# Altium footprint library IMR_LIB_PCB.PcbLib: 119 footprints (part 4 of 8)
Each footprint in its own frame and in the unit in brackets; x right, y up, seen from the top. Pads: shape width x height; smd on the part's side, far side on the other; paste and mask are expansions set on the pad; w line width, h text height; cw(c..) or ccw(c..) is an arc to the next point about the centre after c.
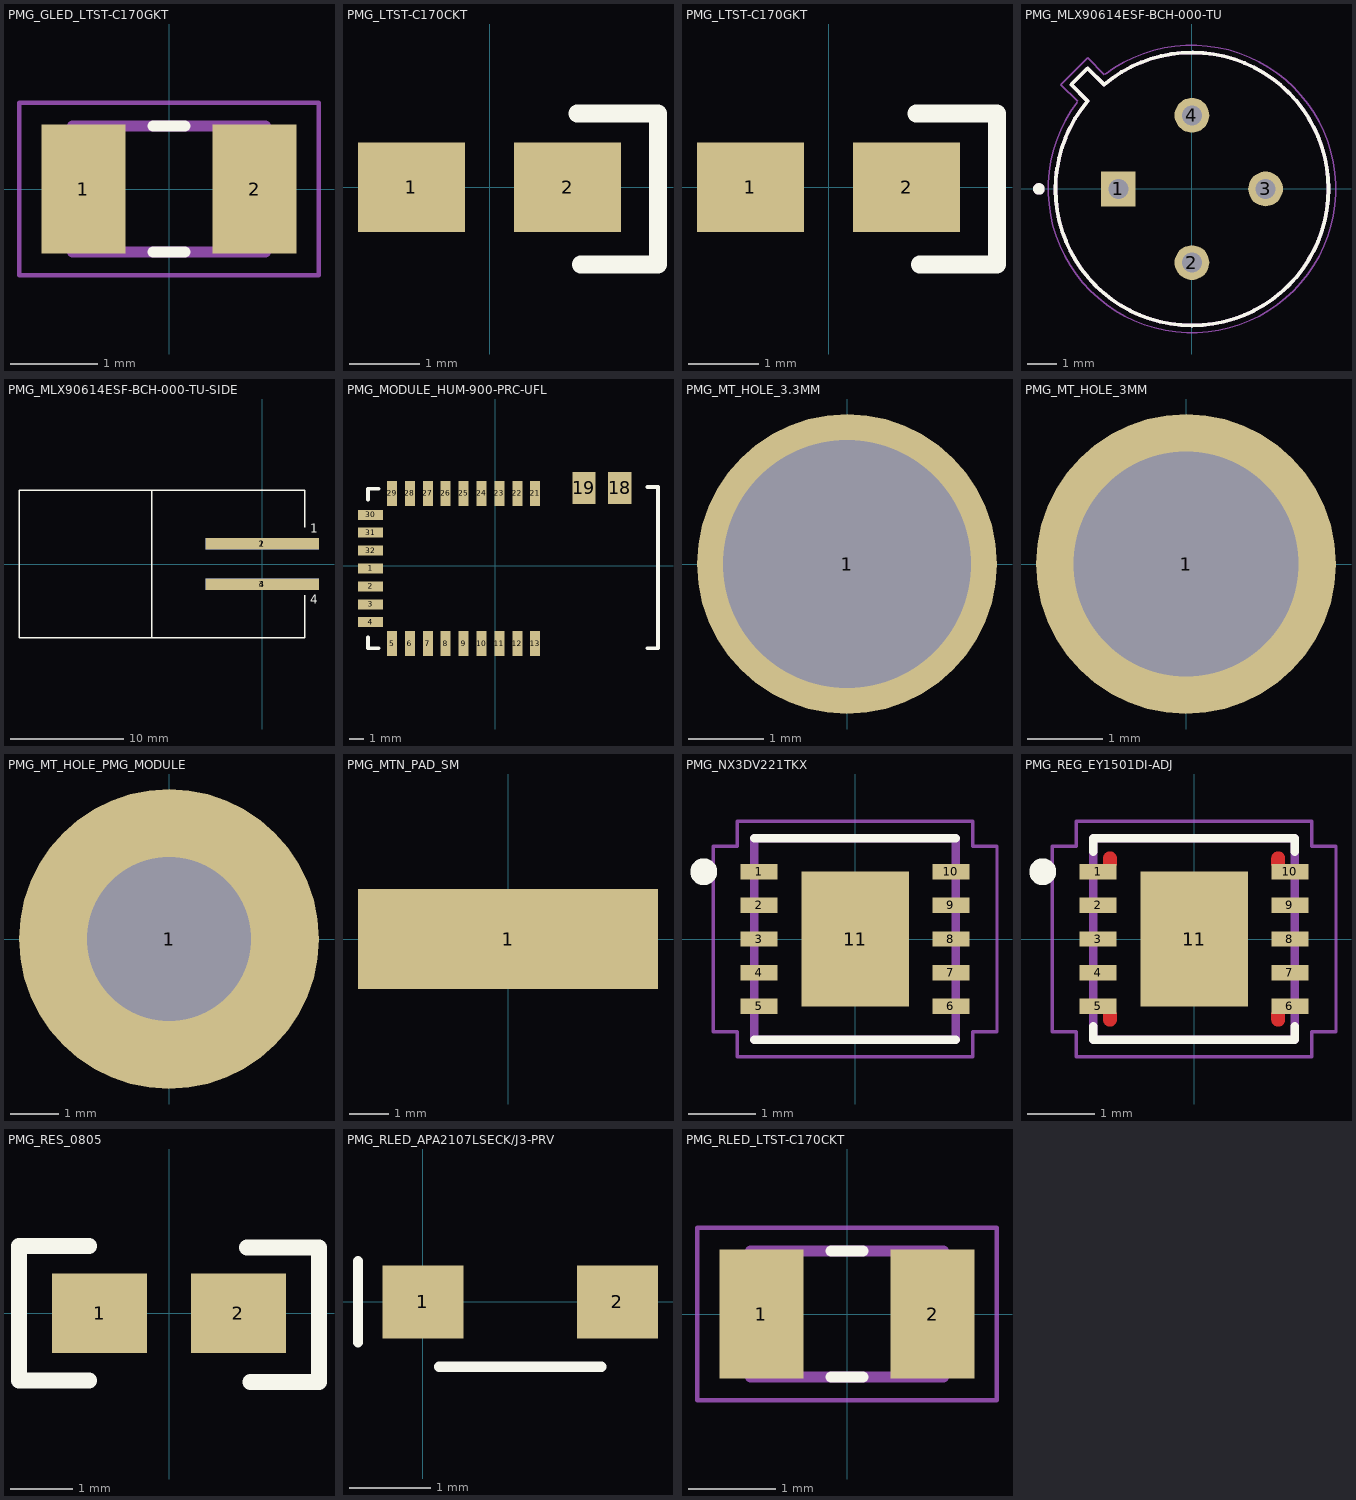
[diagram p3: the footprints below, top view; thin cyan lines are the x and y axes]

## PMG_GLED_LTST-C170GKT [mm] "DIODE LED GREEN 0805"
pads (2):
  rect 0.96x1.47 smd: 1(-0.978,0) 2(0.978,0)
Top Overlay:
  lines w0.127: -0.18,-0.72 0.18,-0.72 ; -0.18,0.72 0.18,0.72
3D Top:
  lines w0.127: -1.1,-0.72 -1.1,0.72 1.1,0.72 1.1,-0.72 -1.1,-0.72
Courtyard Top:
  lines w0.05: -1.708,-0.983 -1.708,0.983 1.708,0.983 1.708,-0.983 -1.708,-0.983

## PMG_LTST-C170CKT [mil] "LTST-C170CKT"
height 43.31
pads (2):
  rect 60x50 smd: 1(-43.78,0) 2(43.78,0)
Top Overlay:
  lines w10: 49.21,41.34 94.49,41.34 94.49,-43.31 51.18,-43.31
3D body: height 43.31, standoff 0, extent -60,-30 65,30

## PMG_LTST-C170GKT [mil] "LTST-C170GKT"
height 43.31
pads (2):
  rect 60x50 smd: 1(-43.78,0) 2(43.78,0)
Top Overlay:
  lines w10: 49.21,41.34 94.49,41.34 94.49,-43.31 51.18,-43.31
3D body: height 43.31, standoff 0, extent -60,-30 65,30

## PMG_MLX90614ESF-BCH-000-TU [mm] "TO-39 4 PIN"
height 8.3
pads (4):
  rect 1.198x1.198 hole 0.69: 1(-2.54,0)
  round 1.198 hole 0.69: 2(0,-2.54) 3(2.54,0) 4(0,2.54)
Top Overlay:
  circle w0.2: c-5.28,0 r0.1
  lines w0.127: -3.605,3.027 ccw(c0.005,-0.002) -3.327,-3.334 ; -3.599,3.033 -4.165,3.599 -3.599,4.165 -3.033,3.599 ; -3.33,-3.33 ccw(c0,0) 3.33,-3.33 ccw(c0,0) 3.33,3.33 ; -3.026,3.605 cw(c0.002,-0.004) 3.334,3.327
3D Top:
  circle w0.2: c-5.28,0 r0.1
  lines w0.127: -3.605,3.027 ccw(c0.005,-0.002) -3.327,-3.334 ; -3.599,3.033 -4.165,3.599 -3.599,4.165 -3.033,3.599 ; -3.33,-3.33 ccw(c0,0) 3.33,-3.33 ccw(c0,0) 3.33,3.33 ; -3.026,3.605 cw(c0.002,-0.004) 3.334,3.327
Courtyard Top:
  lines w0.05: -3.959,2.989 ccw(c0.005,0.001) -3.505,-3.509 ; -3.937,3.018 -4.518,3.599 -3.599,4.518 -3.018,3.937 ; -3.507,-3.507 ccw(c0,0) 3.507,-3.507 ccw(c0,0) 3.507,3.507 ; -2.989,3.959 cw(c-0.001,-0.005) 3.509,3.505
3D body: height 4.25, standoff -13, extent -4.56,-4.56 4.56,4.56

## PMG_MLX90614ESF-BCH-000-TU-SIDE [mm] "TO-39 4 PIN SIDE EDGE MOUNT"
height 8.3
pads (4):
  rect 10x1 smd: 1(0,1.796) 4(0,-1.796)
  rect 10x1 smd far side: 2(0,1.796) 3(0,-1.796)
Top Overlay:
  lines w0.127: -9.75,-6.5 -9.75,6.5 ; 3.75,-2.75 3.75,-6.5 -21.5,-6.5 -21.5,6.5 3.75,6.5 3.75,3.25
  text "4" at 4.25,-3.5 h0.76
  text "1" at 4.25,2.75 h0.76
Bottom Overlay:
  lines w0.127: -9.75,-6.5 -9.75,6.5 ; 3.75,-2.75 3.75,-6.5 -21.5,-6.5 -21.5,6.5 3.75,6.5 3.75,3.25
  text "3" at 4.75,-3.5 h0.76
  text "2" at 4.699,2.794 h0.76
3D body: height 5.58, standoff -7.58, extent -21.376,-6.576 3.724,6.576

## PMG_MODULE_HUM-900-PRC-UFL [mil] "RX TXRX MOD ISM < 1GHZ U.FL SMD"
height 116.14
pads (27):
  rect 70x28 smd: 1(-348,-7.5) 2(-348,-57.5) 3(-348,-107.5) 4(-348,-157.5) 30(-348,142.5) 31(-348,92.5) 32(-348,42.5)
  rect 28x70 smd: 5(-288,-217.5) 6(-238,-217.5) 7(-188,-217.5) 8(-138,-217.5) 9(-88,-217.5) 10(-38,-217.5) 11(12,-217.5) 12(62,-217.5) 13(112,-217.5) 21(112,202.5) 22(62,202.5) 23(12,202.5) 24(-38,202.5) 25(-88,202.5) 26(-138,202.5) 27(-188,202.5) 28(-238,202.5) 29(-288,202.5)
  rect 65x90 smd: 18(348,217.5) 19(248,217.5)
Top Overlay:
  lines w10: -355,-200 -355,-230 -325,-230 ; -355,185 -355,215 -325,215 ; 425,-230 455,-230 455,220 425,220
3D body: height 88.58, standoff 20.85, extent 208.57,-81.87 312.09,21.86
3D body: height 38.7, standoff 29.04, extent 208.57,-87.5 312.5,27.5
3D body: height 87.11, standoff 29.06, extent -356,-232.5 182.58,217.5
3D body: height 29.04, standoff 0, extent -356,-232.5 455.81,217.5

## PMG_MT_HOLE_3.3MM [mm] "3.3MM IN D"
pads (1):
  round 4 hole 3.3: 1(0,0)

## PMG_MT_HOLE_3MM [mm] "3MM IN D"
pads (1):
  round 4 hole 3: 1(0,0)

## PMG_MT_HOLE_PMG_MODULE [mil] "245MIL OD, 134ID"
pads (1):
  round 245 hole 134: 1(0,0)

## PMG_MTN_PAD_SM [mm] "300mil x 100mil"
pads (1):
  rect 7.62x2.54 smd: 1(0,0)

## PMG_NX3DV221TKX [mm] "SWDAT_IC USB 2.0 SWITCH HS 10HVSON"
pads (11):
  rect 0.55x0.23 smd: 1(-1.425,1) 2(-1.425,0.5) 3(-1.425,0) 4(-1.425,-0.5) 5(-1.425,-1) 6(1.425,-1) 7(1.425,-0.5) 8(1.425,0) 9(1.425,0.5) 10(1.425,1)
  rect 1.6x2 smd paste-2: 11(0,0)
Top Overlay:
  circle w0.2: c-2.25,1 r0.1
  lines w0.127: -1.5,-1.5 1.5,-1.5 ; -1.5,1.5 1.5,1.5
Top Paste:
  region: 0.506,-0.635 -0.506,-0.635 -0.506,0.634 0.506,0.634
3D Top:
  lines w0.127: -1.5,-1.5 1.5,-1.5 1.5,1.5 -1.5,1.5 -1.5,-1.5
Courtyard Top:
  lines w0.05: -2.11,-1.38 -1.75,-1.38 -1.75,-1.75 1.75,-1.75 1.75,-1.38 2.11,-1.38 2.11,1.38 1.75,1.38 1.75,1.75 -1.75,1.75 -1.75,1.38 -2.11,1.38 -2.11,-1.38
3D body: height 0.85, standoff 0, extent -1.5,-1.5 1.5,1.5

## PMG_REG_EY1501DI-ADJ [mm] "IC USB 2.0 SWITCH HS 10HVSON"
height 0.127
pads (11):
  rect 0.55x0.23 smd: 1(-1.425,1) 2(-1.425,0.5) 3(-1.425,0) 4(-1.425,-0.5) 5(-1.425,-1) 6(1.425,-1) 7(1.425,-0.5) 8(1.425,0) 9(1.425,0.5) 10(1.425,1)
  rect 1.6x2 smd paste-2: 11(0,0)
Top Layer:
  region: 1.35,-1.2 1.35,-1.205 1.349,-1.21 1.349,-1.216 1.348,-1.221 1.347,-1.226 1.345,-1.231 1.343,-1.236 1.341,-1.241 1.339,-1.245 1.337,-1.25 1.334,-1.254 1.331,-1.259 1.328,-1.263 1.324,-1.267 1.321,-1.271 1.317,-1.274 1.313,-1.278 1.309,-1.281 1.304,-1.284 1.3,-1.287 1.295,-1.289 1.291,-1.291 1.286,-1.293 1.281,-1.295 1.276,-1.297 1.271,-1.298 1.266,-1.299 1.26,-1.299 1.255,-1.3 1.25,-1.3 1.245,-1.3 1.24,-1.299 1.234,-1.299 1.229,-1.298 1.224,-1.297 1.219,-1.295 1.214,-1.293 1.209,-1.291 1.205,-1.289 1.2,-1.287 1.196,-1.284 1.191,-1.281 1.187,-1.278 1.183,-1.274 1.179,-1.271 1.176,-1.267 1.172,-1.263 1.169,-1.259 1.166,-1.254 1.163,-1.25 1.161,-1.245 1.159,-1.241 1.157,-1.236 1.155,-1.231 1.153,-1.226 1.152,-1.221 1.151,-1.216 1.151,-1.21 1.15,-1.205 1.15,-1.2 1.15,-1.1 1.35,-1.1
  region: -1.15,-1.2 -1.15,-1.205 -1.151,-1.21 -1.151,-1.216 -1.152,-1.221 -1.153,-1.226 -1.155,-1.231 -1.157,-1.236 -1.159,-1.241 -1.161,-1.245 -1.163,-1.25 -1.166,-1.254 -1.169,-1.259 -1.172,-1.263 -1.176,-1.267 -1.179,-1.271 -1.183,-1.274 -1.187,-1.278 -1.191,-1.281 -1.196,-1.284 -1.2,-1.287 -1.205,-1.289 -1.209,-1.291 -1.214,-1.293 -1.219,-1.295 -1.224,-1.297 -1.229,-1.298 -1.234,-1.299 -1.24,-1.299 -1.245,-1.3 -1.25,-1.3 -1.255,-1.3 -1.26,-1.299 -1.266,-1.299 -1.271,-1.298 -1.276,-1.297 -1.281,-1.295 -1.286,-1.293 -1.291,-1.291 -1.295,-1.289 -1.3,-1.287 -1.304,-1.284 -1.309,-1.281 -1.313,-1.278 -1.317,-1.274 -1.321,-1.271 -1.324,-1.267 -1.328,-1.263 -1.331,-1.259 -1.334,-1.254 -1.337,-1.25 -1.339,-1.245 -1.341,-1.241 -1.343,-1.236 -1.345,-1.231 -1.347,-1.226 -1.348,-1.221 -1.349,-1.216 -1.349,-1.21 -1.35,-1.205 -1.35,-1.2 -1.35,-1.1 -1.15,-1.1
  region: 1.255,1.3 1.26,1.299 1.266,1.299 1.271,1.298 1.276,1.297 1.281,1.295 1.286,1.293 1.291,1.291 1.295,1.289 1.3,1.287 1.304,1.284 1.309,1.281 1.313,1.278 1.317,1.274 1.321,1.271 1.324,1.267 1.328,1.263 1.331,1.259 1.334,1.254 1.337,1.25 1.339,1.245 1.341,1.241 1.343,1.236 1.345,1.231 1.347,1.226 1.348,1.221 1.349,1.216 1.349,1.21 1.35,1.205 1.35,1.2 1.35,1.1 1.15,1.1 1.15,1.2 1.15,1.205 1.151,1.21 1.151,1.216 1.152,1.221 1.153,1.226 1.155,1.231 1.157,1.236 1.159,1.241 1.161,1.245 1.163,1.25 1.166,1.254 1.169,1.259 1.172,1.263 1.176,1.267 1.179,1.271 1.183,1.274 1.187,1.278 1.191,1.281 1.196,1.284 1.2,1.287 1.205,1.289 1.209,1.291 1.214,1.293 1.219,1.295 1.224,1.297 1.229,1.298 1.234,1.299 1.24,1.299 1.245,1.3 1.25,1.3
  region: -1.245,1.3 -1.24,1.299 -1.234,1.299 -1.229,1.298 -1.224,1.297 -1.219,1.295 -1.214,1.293 -1.209,1.291 -1.205,1.289 -1.2,1.287 -1.196,1.284 -1.191,1.281 -1.187,1.278 -1.183,1.274 -1.179,1.271 -1.176,1.267 -1.172,1.263 -1.169,1.259 -1.166,1.254 -1.163,1.25 -1.161,1.245 -1.159,1.241 -1.157,1.236 -1.155,1.231 -1.153,1.226 -1.152,1.221 -1.151,1.216 -1.151,1.21 -1.15,1.205 -1.15,1.2 -1.15,1.1 -1.35,1.1 -1.35,1.2 -1.35,1.205 -1.349,1.21 -1.349,1.216 -1.348,1.221 -1.347,1.226 -1.345,1.231 -1.343,1.236 -1.341,1.241 -1.339,1.245 -1.337,1.25 -1.334,1.254 -1.331,1.259 -1.328,1.263 -1.324,1.267 -1.321,1.271 -1.317,1.274 -1.313,1.278 -1.309,1.281 -1.304,1.284 -1.3,1.287 -1.295,1.289 -1.291,1.291 -1.286,1.293 -1.281,1.295 -1.276,1.297 -1.271,1.298 -1.266,1.299 -1.26,1.299 -1.255,1.3 -1.25,1.3
Top Overlay:
  circle w0.2: c-2.25,1 r0.1
  lines w0.127: -1.5,-1.3 -1.5,-1.5 1.5,-1.5 1.5,-1.3 ; -1.5,1.3 -1.5,1.5 1.5,1.5 1.5,1.3
Top Paste:
  drawing of 5 lines, arcs and shapes, not listed
Top Solder:
  region: -1.05,-1.341 -1.411,-1.341 -1.411,-1.1 -1.05,-1.1
  region: 1.41,-1.343 1.052,-1.343 1.052,-1.1 1.41,-1.1
  region: 1.4,1.102 1.042,1.102 1.042,1.34 1.4,1.34
  region: -1.05,1.11 -1.41,1.11 -1.41,1.35 -1.05,1.35
3D Top:
  lines w0.127: -1.5,-1.5 1.5,-1.5 1.5,1.5 -1.5,1.5 -1.5,-1.5
Courtyard Top:
  lines w0.05: -2.11,-1.38 -1.75,-1.38 -1.75,-1.75 1.75,-1.75 1.75,-1.38 2.11,-1.38 2.11,1.38 1.75,1.38 1.75,1.75 -1.75,1.75 -1.75,1.38 -2.11,1.38 -2.11,-1.38
3D body: height 0.8, standoff 0, extent -1.56,-1.55 1.56,1.55

## PMG_RES_0805 [mil]
pads (2):
  rect 60x50 smd: 1(-43.78,0) 2(43.78,0)
Top Overlay:
  lines w10: -50.2,-42.32 -94.49,-42.32 ; -50.2,42.32 -94.49,42.32 ; 49.21,41.34 94.49,41.34 94.49,-43.31 51.18,-43.31 ; -94.49,-42.32 -94.49,-42.32 ; -94.49,-42.32 -94.49,42.32 ; -94.49,42.32 -94.49,42.32
3D body: height 21.65, standoff 0, extent -61.02,-30.39 61.03,30.71

## PMG_RLED_APA2107LSECK/J3-PRV [mm] "LED RED SMD RA"
height 0.6
pads (2):
  rect 1x0.9 smd: 1(0,0) 2(2.4,0)
Top Overlay:
  lines w0.127: -0.8,-0.5 -0.8,0.5 ; 0.2,-0.8 2.2,-0.8
3D body: height 0.6, standoff 0, extent 0.15,-0.75 2.25,0.251

## PMG_RLED_LTST-C170CKT [mm] "DIODE, LED RED 0805"
pads (2):
  rect 0.96x1.47 smd: 1(-0.978,0) 2(0.978,0)
Top Overlay:
  lines w0.127: -0.18,-0.72 0.18,-0.72 ; -0.18,0.72 0.18,0.72
3D Top:
  lines w0.127: -1.1,-0.72 1.1,-0.72 1.1,0.72 -1.1,0.72 -1.1,-0.72
Courtyard Top:
  lines w0.05: -1.708,-0.983 1.708,-0.983 1.708,0.983 -1.708,0.983 -1.708,-0.983

## PMG_SWITCH_EVQQ2U02W [mm] "SWITCH TACTILE SPST-NO 0.02A 15V"